# EAGLE library part FT230XQ (library eagle-library-edeca.net-v5)
FTDI FT230XQ - USB to basic UART http://www.ftdichip.com/Support/Documents/DataSheets/ICs/DS_FT230X.pdf
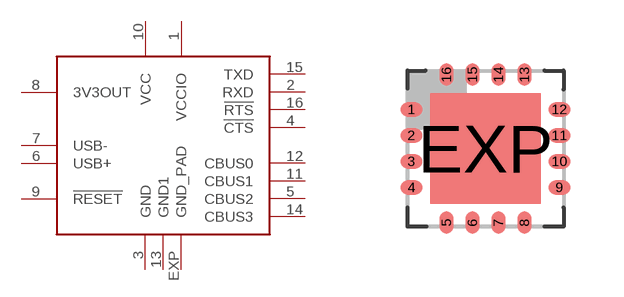
[diagram p15: symbol with the pads of QFN16; footprint QFN16]

Designator prefix -

## FT230XQ  [QFN16]
1  VCCIO
2  RXD
3  GND
4  !CTS
5  CBUS2
6  USB+
7  USB-
8  3V3OUT
9  !RESET
10  VCC
11  CBUS1
12  CBUS0
13  GND1
14  CBUS3
15  TXD
16  !RTS
EXP  GND_PAD

## Footprint QFN16 (pad centres in mm)
smd 0.55 x 0.35: 1 -1.85,0.975; 2 -1.85,0.325; 3 -1.85,-0.325; 4 -1.85,-0.975; 9 1.85,-0.975; 10 1.85,-0.325; 11 1.85,0.325; 12 1.85,0.975
smd 0.35 x 0.55: 5 -0.975,-1.85; 6 -0.325,-1.85; 7 0.325,-1.85; 8 0.975,-1.85; 13 0.975,1.85; 14 0.325,1.85; 15 -0.325,1.85; 16 -0.975,1.85
smd 2.76 x 2.76: EXP 0,0